# Altium footprint library IC_SMT.PcbLib: 81 footprints (part 1 of 6)
Each footprint in its own frame and in the unit in brackets; x right, y up, seen from the top. Pads: shape width x height; smd on the part's side, far side on the other; paste and mask are expansions set on the pad; w line width, h text height; cw(c..) or ccw(c..) is an arc to the next point about the centre after c.
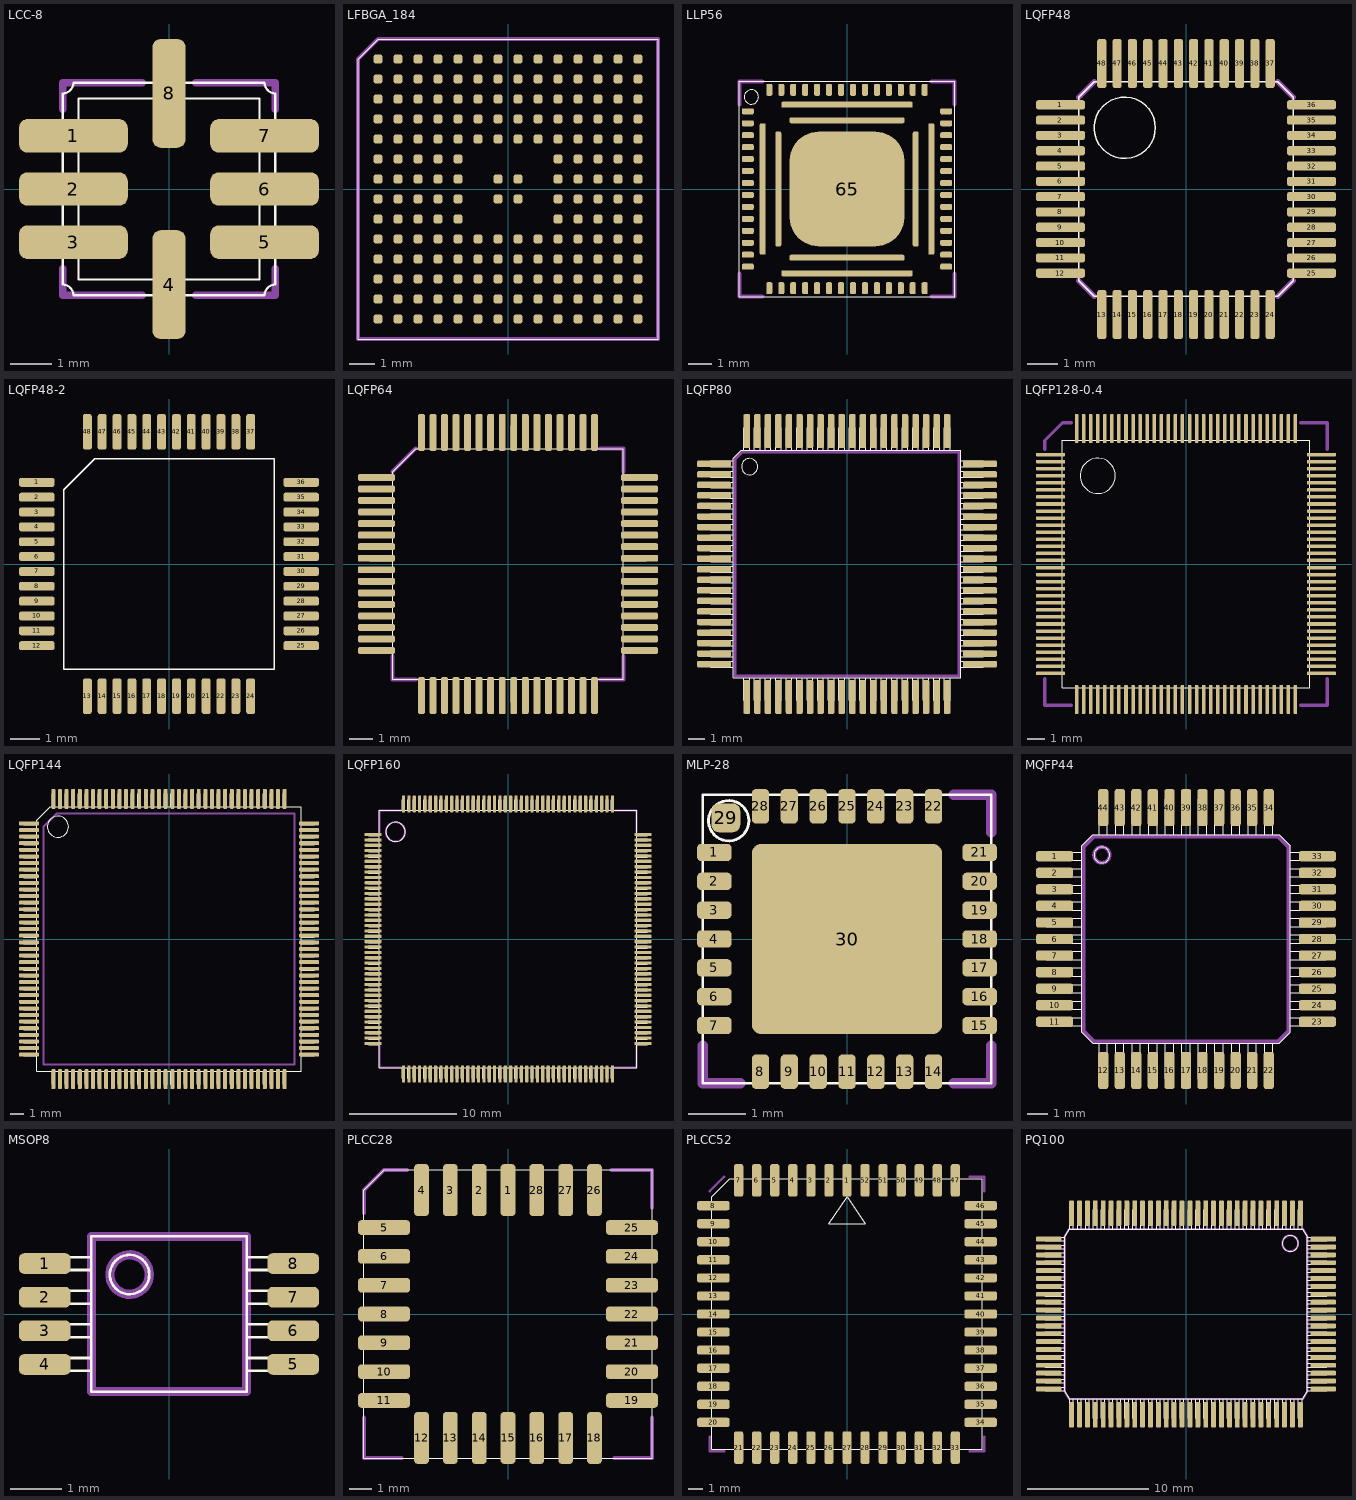
[diagram p0: the footprints below, top view; thin cyan lines are the x and y axes]

## LCC-8 [mm]
height 1.575
pads (8):
  rrect50% 2.6x0.8 smd paste+0: 1(-2.286,1.27) 2(-2.286,0) 3(-2.286,-1.27) 5(2.286,-1.27) 6(2.286,0) 7(2.286,1.27)
  rrect50% 0.8x2.6 smd paste+0: 4(0,-2.286) 8(0,2.286)
Top Overlay:
  lines w0.05: -2.54,-2.286 cw(c-2.54,-2.54) -2.286,-2.54 -0.254,-2.54 cw(c0,-2.54) 0.254,-2.54 2.286,-2.54 cw(c2.54,-2.54) 2.54,-2.286 2.54,-1.524 cw(c2.54,-1.27) 2.54,-1.016 2.54,-0.254 cw(c2.54,0) 2.54,0.254 2.54,1.016 cw(c2.54,1.27) 2.54,1.524 2.54,2.286 cw(c2.54,2.54) 2.286,2.54 0.254,2.54 cw(c0,2.54) -0.254,2.54 -2.286,2.54 cw(c-2.54,2.54) -2.54,2.286 -2.54,1.524 cw(c-2.54,1.27) -2.54,1.016 -2.54,0.254 cw(c-2.54,0) -2.54,-0.254 -2.54,-1.016 cw(c-2.54,-1.27) -2.54,-1.524 -2.54,-2.286 ; -2.159,-2.159 2.159,-2.159 2.159,2.159 -2.159,2.159 -2.159,-2.159
Comp Silk:
  lines w0.18: -2.54,-1.905 -2.54,-2.54 -0.635,-2.54 ; -2.54,1.905 -2.54,2.54 -0.635,2.54 ; 0.635,-2.54 2.54,-2.54 2.54,-1.905 ; 0.635,2.54 2.54,2.54 2.54,1.905
  text ".Designator" at -2.286,1.016 h1.5

## LFBGA_184 [mm]
pads (184):
  rrect50% 0.35x0.35 smd paste+0: A1(-5.2,5.2) A2(-4.4,5.2) A3(-3.6,5.2) A4(-2.8,5.2) A5(-2,5.2) A6(-1.2,5.2) A7(-0.4,5.2) A8(0.4,5.2) A9(1.2,5.2) A10(2,5.2) A11(2.8,5.2) A12(3.6,5.2) A13(4.4,5.2) A14(5.2,5.2) B1(-5.2,4.4) B2(-4.4,4.4) B3(-3.6,4.4) B4(-2.8,4.4) B5(-2,4.4) B6(-1.2,4.4) B7(-0.4,4.4) B8(0.4,4.4) B9(1.2,4.4) B10(2,4.4) B11(2.8,4.4) B12(3.6,4.4) B13(4.4,4.4) B14(5.2,4.4) C1(-5.2,3.6) C2(-4.4,3.6) C3(-3.6,3.6) C4(-2.8,3.6) C5(-2,3.6) C6(-1.2,3.6) C7(-0.4,3.6) C8(0.4,3.6) C9(1.2,3.6) C10(2,3.6) C11(2.8,3.6) C12(3.6,3.6) C13(4.4,3.6) C14(5.2,3.6) D1(-5.2,2.8) D2(-4.4,2.8) D3(-3.6,2.8) D4(-2.8,2.8) D5(-2,2.8) D6(-1.2,2.8) D7(-0.4,2.8) D8(0.4,2.8) D9(1.2,2.8) D10(2,2.8) D11(2.8,2.8) D12(3.6,2.8) D13(4.4,2.8) D14(5.2,2.8) E1(-5.2,2) E2(-4.4,2) E3(-3.6,2) E4(-2.8,2) E5(-2,2) E6(-1.2,2) E7(-0.4,2) E8(0.4,2) E9(1.2,2) E10(2,2) E11(2.8,2) E12(3.6,2) E13(4.4,2) E14(5.2,2) F1(-5.2,1.2) F2(-4.4,1.2) F3(-3.6,1.2) F4(-2.8,1.2) F5(-2,1.2) F10(2,1.2) F11(2.8,1.2) F12(3.6,1.2) F13(4.4,1.2) F14(5.2,1.2) G1(-5.2,0.4) G2(-4.4,0.4) G3(-3.6,0.4) G4(-2.8,0.4) G5(-2,0.4) G7(-0.4,0.4) G8(0.4,0.4) G10(2,0.4) G11(2.8,0.4) G12(3.6,0.4) G13(4.4,0.4) G14(5.2,0.4) H1(-5.2,-0.4) H2(-4.4,-0.4) H3(-3.6,-0.4) H4(-2.8,-0.4) H5(-2,-0.4) H7(-0.4,-0.4) H8(0.4,-0.4) H10(2,-0.4) H11(2.8,-0.4) H12(3.6,-0.4) H13(4.4,-0.4) H14(5.2,-0.4) J1(-5.2,-1.2) J2(-4.4,-1.2) J3(-3.6,-1.2) J4(-2.8,-1.2) J5(-2,-1.2) J10(2,-1.2) J11(2.8,-1.2) J12(3.6,-1.2) J13(4.4,-1.2) J14(5.2,-1.2) K1(-5.2,-2) K2(-4.4,-2) K3(-3.6,-2) K4(-2.8,-2) K5(-2,-2) K6(-1.2,-2) K7(-0.4,-2) K8(0.4,-2) K9(1.2,-2) K10(2,-2) K11(2.8,-2) K12(3.6,-2) K13(4.4,-2) K14(5.2,-2) L1(-5.2,-2.8) L2(-4.4,-2.8) L3(-3.6,-2.8) L4(-2.8,-2.8) L5(-2,-2.8) L6(-1.2,-2.8) L7(-0.4,-2.8) L8(0.4,-2.8) L9(1.2,-2.8) L10(2,-2.8) L11(2.8,-2.8) L12(3.6,-2.8) L13(4.4,-2.8) L14(5.2,-2.8) M1(-5.2,-3.6) M2(-4.4,-3.6) M3(-3.6,-3.6) M4(-2.8,-3.6) M5(-2,-3.6) M6(-1.2,-3.6) M7(-0.4,-3.6) M8(0.4,-3.6) M9(1.2,-3.6) M10(2,-3.6) M11(2.8,-3.6) M12(3.6,-3.6) M13(4.4,-3.6) M14(5.2,-3.6) N1(-5.2,-4.4) N2(-4.4,-4.4) N3(-3.6,-4.4) N4(-2.8,-4.4) N5(-2,-4.4) N6(-1.2,-4.4) N7(-0.4,-4.4) N8(0.4,-4.4) N9(1.2,-4.4) N10(2,-4.4) N11(2.8,-4.4) N12(3.6,-4.4) N13(4.4,-4.4) N14(5.2,-4.4) P1(-5.2,-5.2) P2(-4.4,-5.2) P3(-3.6,-5.2) P4(-2.8,-5.2) P5(-2,-5.2) P6(-1.2,-5.2) P7(-0.4,-5.2) P8(0.4,-5.2) P9(1.2,-5.2) P10(2,-5.2) P11(2.8,-5.2) P12(3.6,-5.2) P13(4.4,-5.2) P14(5.2,-5.2)
Top Overlay:
  lines w0.05: -6,-6 6,-6 6,6 -5.2,6 -6,5.2 -6,-6
Comp Silk:
  lines w0.18: -6,-6 6,-6 6,6 -5.2,6 -6,5.2 -6,-6
  text ".Designator" at -5.08,3.302 h1.5

## LLP56 [mm]
height 0.635
pads (65):
  rrect50% 0.5x0.25 smd paste+0: 1(-4.15,3.25) 2(-4.15,2.75) 3(-4.15,2.25) 4(-4.15,1.75) 5(-4.15,1.25) 6(-4.15,0.75) 7(-4.15,0.25) 8(-4.15,-0.25) 9(-4.15,-0.75) 10(-4.15,-1.25) 11(-4.15,-1.75) 12(-4.15,-2.25) 13(-4.15,-2.75) 14(-4.15,-3.25) 29(4.15,-3.25) 30(4.15,-2.75) 31(4.15,-2.25) 32(4.15,-1.75) 33(4.15,-1.25) 34(4.15,-0.75) 35(4.15,-0.25) 36(4.15,0.25) 37(4.15,0.75) 38(4.15,1.25) 39(4.15,1.75) 40(4.15,2.25) 41(4.15,2.75) 42(4.15,3.25)
  rrect50% 0.25x0.5 smd paste+0: 15(-3.25,-4.15) 16(-2.75,-4.15) 17(-2.25,-4.15) 18(-1.75,-4.15) 19(-1.25,-4.15) 20(-0.75,-4.15) 21(-0.25,-4.15) 22(0.25,-4.15) 23(0.75,-4.15) 24(1.25,-4.15) 25(1.75,-4.15) 26(2.25,-4.15) 27(2.75,-4.15) 28(3.25,-4.15) 43(3.25,4.15) 44(2.75,4.15) 45(2.25,4.15) 46(1.75,4.15) 47(1.25,4.15) 48(0.75,4.15) 49(0.25,4.15) 50(-0.25,4.15) 51(-0.75,4.15) 52(-1.25,4.15) 53(-1.75,4.15) 54(-2.25,4.15) 55(-2.75,4.15) 56(-3.25,4.15)
  rrect50% 0.25x5.5 smd paste+0: 57(-3.525,0) 61(3.525,0)
  rrect50% 0.25x4.8 smd paste+0: 58(-2.875,0) 62(2.875,0)
  rrect50% 5.5x0.25 smd paste+0: 59(0,3.525) 63(0,-3.525)
  rrect50% 4.8x0.25 smd paste+0: 60(0,2.875) 64(0,-2.875)
  rrect50% 4.8x4.8 smd paste+0: 65(0,0)
Top Overlay:
  circle w0.05: c-4,3.85 r0.3
  lines w0.05: -4.5,-4.5 -4.5,4.5 4.5,4.5 4.5,-4.5 -4.5,-4.5
Top Solder:
  circle w0.25: c-1.905,-1.905 r0.381
  circle w0.25: c-0.635,-1.905 r0.381
  circle w0.25: c0.635,-1.905 r0.381
  circle w0.25: c1.905,-1.905 r0.381
  circle w0.25: c-0.635,0.635 r0.381
  circle w0.25: c-1.905,0.635 r0.381
  circle w0.25: c-1.905,1.905 r0.381
  circle w0.25: c-0.635,1.905 r0.381
  circle w0.25: c0.635,1.905 r0.381
  circle w0.25: c1.905,1.905 r0.381
  circle w0.25: c1.905,0.635 r0.381
  circle w0.25: c0.635,0.635 r0.381
  circle w0.25: c-1.905,-0.635 r0.381
  circle w0.25: c1.905,-0.635 r0.381
  circle w0.25: c0.635,-0.635 r0.381
  circle w0.25: c-0.635,-0.635 r0.381
Comp Silk:
  lines w0.18: -4.5,-3.55 -4.5,-4.5 -3.55,-4.5 ; -4.5,3.55 -4.5,4.5 -3.55,4.5 ; 3.55,-4.5 4.5,-4.5 4.5,-3.55 ; 3.55,4.5 4.5,4.5 4.5,3.55
  text ".Designator" at -3.937,2.667 h1.5

## LQFP48 [mm]
height 1.397
pads (48):
  rrect50% 1.6x0.3 smd paste+0: 1(-4.1,2.75) 2(-4.1,2.25) 3(-4.1,1.75) 4(-4.1,1.25) 5(-4.1,0.75) 6(-4.1,0.25) 7(-4.1,-0.25) 8(-4.1,-0.75) 9(-4.1,-1.25) 10(-4.1,-1.75) 11(-4.1,-2.25) 12(-4.1,-2.75) 25(4.1,-2.75) 26(4.1,-2.25) 27(4.1,-1.75) 28(4.1,-1.25) 29(4.1,-0.75) 30(4.1,-0.25) 31(4.1,0.25) 32(4.1,0.75) 33(4.1,1.25) 34(4.1,1.75) 35(4.1,2.25) 36(4.1,2.75)
  rrect50% 0.3x1.6 smd paste+0: 13(-2.75,-4.1) 14(-2.25,-4.1) 15(-1.75,-4.1) 16(-1.25,-4.1) 17(-0.75,-4.1) 18(-0.25,-4.1) 19(0.25,-4.1) 20(0.75,-4.1) 21(1.25,-4.1) 22(1.75,-4.1) 23(2.25,-4.1) 24(2.75,-4.1) 37(2.75,4.1) 38(2.25,4.1) 39(1.75,4.1) 40(1.25,4.1) 41(0.75,4.1) 42(0.25,4.1) 43(-0.25,4.1) 44(-0.75,4.1) 45(-1.25,4.1) 46(-1.75,4.1) 47(-2.25,4.1) 48(-2.75,4.1)
Top Overlay:
  circle w0.05: c-2,2 r1
  lines w0.05: -3.5,-3 -3,-3.5 3,-3.5 3.5,-3 3.5,3 3,3.5 -3,3.5 -3.5,3 -3.5,-3
Comp Silk:
  lines w0.18: -3.5,-3 -3,-3.5 ; -3.5,3 -3,3.5 ; 3,-3.5 3.5,-3 ; 3,3.5 3.5,3
  text ".Designator" at -2.921,1.524 h1.5

## LQFP48-2 [mm] "Rev.1"
height 0.5
pads (48):
  rrect50% 1.2x0.3 smd: 1(-4.45,2.75) 2(-4.45,2.25) 3(-4.45,1.75) 4(-4.45,1.25) 5(-4.45,0.75) 6(-4.45,0.25) 7(-4.45,-0.25) 8(-4.45,-0.75) 9(-4.45,-1.25) 10(-4.45,-1.75) 11(-4.45,-2.25) 12(-4.45,-2.75) 25(4.45,-2.75) 26(4.45,-2.25) 27(4.45,-1.75) 28(4.45,-1.25) 29(4.45,-0.75) 30(4.45,-0.25) 31(4.45,0.25) 32(4.45,0.75) 33(4.45,1.25) 34(4.45,1.75) 35(4.45,2.25) 36(4.45,2.75)
  rrect50% 0.3x1.2 smd: 13(-2.75,-4.45) 14(-2.25,-4.45) 15(-1.75,-4.45) 16(-1.25,-4.45) 17(-0.75,-4.45) 18(-0.25,-4.45) 19(0.25,-4.45) 20(0.75,-4.45) 21(1.25,-4.45) 22(1.75,-4.45) 23(2.25,-4.45) 24(2.75,-4.45) 37(2.75,4.45) 38(2.25,4.45) 39(1.75,4.45) 40(1.25,4.45) 41(0.75,4.45) 42(0.25,4.45) 43(-0.25,4.45) 44(-0.75,4.45) 45(-1.25,4.45) 46(-1.75,4.45) 47(-2.25,4.45) 48(-2.75,4.45)
Top Overlay:
  lines w0.05: -3.54,-3.54 -3.54,2.505 -2.505,3.54 3.54,3.54 3.54,-3.54 -3.54,-3.54

## LQFP64 [mm]
height 1.397
pads (64):
  rrect50% 1.6x0.3 smd paste+0: 1(-5.7,3.75) 2(-5.7,3.25) 3(-5.7,2.75) 4(-5.7,2.25) 5(-5.7,1.75) 6(-5.7,1.25) 7(-5.7,0.75) 8(-5.7,0.25) 9(-5.7,-0.25) 10(-5.7,-0.75) 11(-5.7,-1.25) 12(-5.7,-1.75) 13(-5.7,-2.25) 14(-5.7,-2.75) 15(-5.7,-3.25) 16(-5.7,-3.75) 33(5.7,-3.75) 34(5.7,-3.25) 35(5.7,-2.75) 36(5.7,-2.25) 37(5.7,-1.75) 38(5.7,-1.25) 39(5.7,-0.75) 40(5.7,-0.25) 41(5.7,0.25) 42(5.7,0.75) 43(5.7,1.25) 44(5.7,1.75) 45(5.7,2.25) 46(5.7,2.75) 47(5.7,3.25) 48(5.7,3.75)
  rrect50% 0.3x1.6 smd paste+0: 17(-3.75,-5.7) 18(-3.25,-5.7) 19(-2.75,-5.7) 20(-2.25,-5.7) 21(-1.75,-5.7) 22(-1.25,-5.7) 23(-0.75,-5.7) 24(-0.25,-5.7) 25(0.25,-5.7) 26(0.75,-5.7) 27(1.25,-5.7) 28(1.75,-5.7) 29(2.25,-5.7) 30(2.75,-5.7) 31(3.25,-5.7) 32(3.75,-5.7) 49(3.75,5.7) 50(3.25,5.7) 51(2.75,5.7) 52(2.25,5.7) 53(1.75,5.7) 54(1.25,5.7) 55(0.75,5.7) 56(0.25,5.7) 57(-0.25,5.7) 58(-0.75,5.7) 59(-1.25,5.7) 60(-1.75,5.7) 61(-2.25,5.7) 62(-2.75,5.7) 63(-3.25,5.7) 64(-3.75,5.7)
Top Overlay:
  drawing of 197 lines, arcs and shapes, not listed
Comp Silk:
  lines w0.18: -5,-4 -5,-5 -4,-5 ; -5,4 -4,5 ; 4,-5 5,-5 5,-4 ; 4,5 5,5 5,4
  text ".Designator" at -4.699,2.921 h1.5

## LQFP80 [mm]
height 1.524
pads (80):
  rrect50% 2.1x0.4 smd paste+0: 1(-8.19,6.175) 2(-8.19,5.525) 3(-8.19,4.875) 4(-8.19,4.225) 5(-8.19,3.575) 6(-8.19,2.925) 7(-8.19,2.275) 8(-8.19,1.625) 9(-8.19,0.975) 10(-8.19,0.325) 11(-8.19,-0.325) 12(-8.19,-0.975) 13(-8.19,-1.625) 14(-8.19,-2.275) 15(-8.19,-2.925) 16(-8.19,-3.575) 17(-8.19,-4.225) 18(-8.19,-4.875) 19(-8.19,-5.525) 20(-8.19,-6.175) 41(8.19,-6.175) 42(8.19,-5.525) 43(8.19,-4.875) 44(8.19,-4.225) 45(8.19,-3.575) 46(8.19,-2.925) 47(8.19,-2.275) 48(8.19,-1.625) 49(8.19,-0.975) 50(8.19,-0.325) 51(8.19,0.325) 52(8.19,0.975) 53(8.19,1.625) 54(8.19,2.275) 55(8.19,2.925) 56(8.19,3.575) 57(8.19,4.225) 58(8.19,4.875) 59(8.19,5.525) 60(8.19,6.175)
  rrect50% 0.4x2.1 smd paste+0: 21(-6.175,-8.19) 22(-5.525,-8.19) 23(-4.875,-8.19) 24(-4.225,-8.19) 25(-3.575,-8.19) 26(-2.925,-8.19) 27(-2.275,-8.19) 28(-1.625,-8.19) 29(-0.975,-8.19) 30(-0.325,-8.19) 31(0.325,-8.19) 32(0.975,-8.19) 33(1.625,-8.19) 34(2.275,-8.19) 35(2.925,-8.19) 36(3.575,-8.19) 37(4.225,-8.19) 38(4.875,-8.19) 39(5.525,-8.19) 40(6.175,-8.19) 61(6.175,8.19) 62(5.525,8.19) 63(4.875,8.19) 64(4.225,8.19) 65(3.575,8.19) 66(2.925,8.19) 67(2.275,8.19) 68(1.625,8.19) 69(0.975,8.19) 70(0.325,8.19) 71(-0.325,8.19) 72(-0.975,8.19) 73(-1.625,8.19) 74(-2.275,8.19) 75(-2.925,8.19) 76(-3.575,8.19) 77(-4.225,8.19) 78(-4.875,8.19) 79(-5.525,8.19) 80(-6.175,8.19)
Top Overlay:
  drawing of 246 lines, arcs and shapes, not listed
Comp Silk:
  lines w0.18: -6.9,-6.9 6.9,-6.9 6.9,6.9 -6.45,6.9 -6.9,6.45 -6.9,-6.9
  text ".Designator" at -5.969,3.937 h1.5

## LQFP128-0.4 [mm]
height 1.524
pads (128):
  rrect50% 1.65x0.2 smd paste+0: 1(-7.675,6.2) 2(-7.675,5.8) 3(-7.675,5.4) 4(-7.675,5) 5(-7.675,4.6) 6(-7.675,4.2) 7(-7.675,3.8) 8(-7.675,3.4) 9(-7.675,3) 10(-7.675,2.6) 11(-7.675,2.2) 12(-7.675,1.8) 13(-7.675,1.4) 14(-7.675,1) 15(-7.675,0.6) 16(-7.675,0.2) 17(-7.675,-0.2) 18(-7.675,-0.6) 19(-7.675,-1) 20(-7.675,-1.4) 21(-7.675,-1.8) 22(-7.675,-2.2) 23(-7.675,-2.6) 24(-7.675,-3) 25(-7.675,-3.4) 26(-7.675,-3.8) 27(-7.675,-4.2) 28(-7.675,-4.6) 29(-7.675,-5) 30(-7.675,-5.4) 31(-7.675,-5.8) 32(-7.675,-6.2) 65(7.675,-6.2) 66(7.675,-5.8) 67(7.675,-5.4) 68(7.675,-5) 69(7.675,-4.6) 70(7.675,-4.2) 71(7.675,-3.8) 72(7.675,-3.4) 73(7.675,-3) 74(7.675,-2.6) 75(7.675,-2.2) 76(7.675,-1.8) 77(7.675,-1.4) 78(7.675,-1) 79(7.675,-0.6) 80(7.675,-0.2) 81(7.675,0.2) 82(7.675,0.6) 83(7.675,1) 84(7.675,1.4) 85(7.675,1.8) 86(7.675,2.2) 87(7.675,2.6) 88(7.675,3) 89(7.675,3.4) 90(7.675,3.8) 91(7.675,4.2) 92(7.675,4.6) 93(7.675,5) 94(7.675,5.4) 95(7.675,5.8) 96(7.675,6.2)
  rrect50% 0.2x1.65 smd paste+0: 33(-6.2,-7.675) 34(-5.8,-7.675) 35(-5.4,-7.675) 36(-5,-7.675) 37(-4.6,-7.675) 38(-4.2,-7.675) 39(-3.8,-7.675) 40(-3.4,-7.675) 41(-3,-7.675) 42(-2.6,-7.675) 43(-2.2,-7.675) 44(-1.8,-7.675) 45(-1.4,-7.675) 46(-1,-7.675) 47(-0.6,-7.675) 48(-0.2,-7.675) 49(0.2,-7.675) 50(0.6,-7.675) 51(1,-7.675) 52(1.4,-7.675) 53(1.8,-7.675) 54(2.2,-7.675) 55(2.6,-7.675) 56(3,-7.675) 57(3.4,-7.675) 58(3.8,-7.675) 59(4.2,-7.675) 60(4.6,-7.675) 61(5,-7.675) 62(5.4,-7.675) 63(5.8,-7.675) 64(6.2,-7.675) 97(6.2,7.675) 98(5.8,7.675) 99(5.4,7.675) 100(5,7.675) 101(4.6,7.675) 102(4.2,7.675) 103(3.8,7.675) 104(3.4,7.675) 105(3,7.675) 106(2.6,7.675) 107(2.2,7.675) 108(1.8,7.675) 109(1.4,7.675) 110(1,7.675) 111(0.6,7.675) 112(0.2,7.675) 113(-0.2,7.675) 114(-0.6,7.675) 115(-1,7.675) 116(-1.4,7.675) 117(-1.8,7.675) 118(-2.2,7.675) 119(-2.6,7.675) 120(-3,7.675) 121(-3.4,7.675) 122(-3.8,7.675) 123(-4.2,7.675) 124(-4.6,7.675) 125(-5,7.675) 126(-5.4,7.675) 127(-5.8,7.675) 128(-6.2,7.675)
Top Overlay:
  circle w0.05: c-5,5 r1
  lines w0.05: -7,-7 7,-7 7,7 -7,7 -7,-7
Comp Silk:
  lines w0.18: -8,-6.5 -8,-8 -6.5,-8 ; -8,6.5 -8,7 -7,8 -6.5,8 ; 6.5,-8 8,-8 8,-6.5 ; 6.5,8 8,8 8,6.5
  text ".Designator" at -6.223,4.318 h1.5

## LQFP144 [mm]
height 1.524
pads (144):
  rrect50% 1.5x0.3 smd paste+0: 1(-10.6,8.75) 2(-10.6,8.25) 3(-10.6,7.75) 4(-10.6,7.25) 5(-10.6,6.75) 6(-10.6,6.25) 7(-10.6,5.75) 8(-10.6,5.25) 9(-10.6,4.75) 10(-10.6,4.25) 11(-10.6,3.75) 12(-10.6,3.25) 13(-10.6,2.75) 14(-10.6,2.25) 15(-10.6,1.75) 16(-10.6,1.25) 17(-10.6,0.75) 18(-10.6,0.25) 19(-10.6,-0.25) 20(-10.6,-0.75) 21(-10.6,-1.25) 22(-10.6,-1.75) 23(-10.6,-2.25) 24(-10.6,-2.75) 25(-10.6,-3.25) 26(-10.6,-3.75) 27(-10.6,-4.25) 28(-10.6,-4.75) 29(-10.6,-5.25) 30(-10.6,-5.75) 31(-10.6,-6.25) 32(-10.6,-6.75) 33(-10.6,-7.25) 34(-10.6,-7.75) 35(-10.6,-8.25) 36(-10.6,-8.75) 73(10.6,-8.75) 74(10.6,-8.25) 75(10.6,-7.75) 76(10.6,-7.25) 77(10.6,-6.75) 78(10.6,-6.25) 79(10.6,-5.75) 80(10.6,-5.25) 81(10.6,-4.75) 82(10.6,-4.25) 83(10.6,-3.75) 84(10.6,-3.25) 85(10.6,-2.75) 86(10.6,-2.25) 87(10.6,-1.75) 88(10.6,-1.25) 89(10.6,-0.75) 90(10.6,-0.25) 91(10.6,0.25) 92(10.6,0.75) 93(10.6,1.25) 94(10.6,1.75) 95(10.6,2.25) 96(10.6,2.75) 97(10.6,3.25) 98(10.6,3.75) 99(10.6,4.25) 100(10.6,4.75) 101(10.6,5.25) 102(10.6,5.75) 103(10.6,6.25) 104(10.6,6.75) 105(10.6,7.25) 106(10.6,7.75) 107(10.6,8.25) 108(10.6,8.75)
  rrect50% 0.3x1.5 smd paste+0: 37(-8.75,-10.6) 38(-8.25,-10.6) 39(-7.75,-10.6) 40(-7.25,-10.6) 41(-6.75,-10.6) 42(-6.25,-10.6) 43(-5.75,-10.6) 44(-5.25,-10.6) 45(-4.75,-10.6) 46(-4.25,-10.6) 47(-3.75,-10.6) 48(-3.25,-10.6) 49(-2.75,-10.6) 50(-2.25,-10.6) 51(-1.75,-10.6) 52(-1.25,-10.6) 53(-0.75,-10.6) 54(-0.25,-10.6) 55(0.25,-10.6) 56(0.75,-10.6) 57(1.25,-10.6) 58(1.75,-10.6) 59(2.25,-10.6) 60(2.75,-10.6) 61(3.25,-10.6) 62(3.75,-10.6) 63(4.25,-10.6) 64(4.75,-10.6) 65(5.25,-10.6) 66(5.75,-10.6) 67(6.25,-10.6) 68(6.75,-10.6) 69(7.25,-10.6) 70(7.75,-10.6) 71(8.25,-10.6) 72(8.75,-10.6) 109(8.75,10.6) 110(8.25,10.6) 111(7.75,10.6) 112(7.25,10.6) 113(6.75,10.6) 114(6.25,10.6) 115(5.75,10.6) 116(5.25,10.6) 117(4.75,10.6) 118(4.25,10.6) 119(3.75,10.6) 120(3.25,10.6) 121(2.75,10.6) 122(2.25,10.6) 123(1.75,10.6) 124(1.25,10.6) 125(0.75,10.6) 126(0.25,10.6) 127(-0.25,10.6) 128(-0.75,10.6) 129(-1.25,10.6) 130(-1.75,10.6) 131(-2.25,10.6) 132(-2.75,10.6) 133(-3.25,10.6) 134(-3.75,10.6) 135(-4.25,10.6) 136(-4.75,10.6) 137(-5.25,10.6) 138(-5.75,10.6) 139(-6.25,10.6) 140(-6.75,10.6) 141(-7.25,10.6) 142(-7.75,10.6) 143(-8.25,10.6) 144(-8.75,10.6)
Top Overlay:
  drawing of 438 lines, arcs and shapes, not listed
Comp Silk:
  lines w0.18: -9.5,-9.5 -9.5,8.5 -8.5,9.5 9.5,9.5 9.5,-9.5 -9.5,-9.5
  text ".Designator" at -7.239,5.969 h1.5

## LQFP160 [mm]
height 1.524
pads (160):
  rrect50% 1.6x0.3 smd paste+0: 1(-12.6,9.75) 2(-12.6,9.25) 3(-12.6,8.75) 4(-12.6,8.25) 5(-12.6,7.75) 6(-12.6,7.25) 7(-12.6,6.75) 8(-12.6,6.25) 9(-12.6,5.75) 10(-12.6,5.25) 11(-12.6,4.75) 12(-12.6,4.25) 13(-12.6,3.75) 14(-12.6,3.25) 15(-12.6,2.75) 16(-12.6,2.25) 17(-12.6,1.75) 18(-12.6,1.25) 19(-12.6,0.75) 20(-12.6,0.25) 21(-12.6,-0.25) 22(-12.6,-0.75) 23(-12.6,-1.25) 24(-12.6,-1.75) 25(-12.6,-2.25) 26(-12.6,-2.75) 27(-12.6,-3.25) 28(-12.6,-3.75) 29(-12.6,-4.25) 30(-12.6,-4.75) 31(-12.6,-5.25) 32(-12.6,-5.75) 33(-12.6,-6.25) 34(-12.6,-6.75) 35(-12.6,-7.25) 36(-12.6,-7.75) 37(-12.6,-8.25) 38(-12.6,-8.75) 39(-12.6,-9.25) 40(-12.6,-9.75) 81(12.6,-9.75) 82(12.6,-9.25) 83(12.6,-8.75) 84(12.6,-8.25) 85(12.6,-7.75) 86(12.6,-7.25) 87(12.6,-6.75) 88(12.6,-6.25) 89(12.6,-5.75) 90(12.6,-5.25) 91(12.6,-4.75) 92(12.6,-4.25) 93(12.6,-3.75) 94(12.6,-3.25) 95(12.6,-2.75) 96(12.6,-2.25) 97(12.6,-1.75) 98(12.6,-1.25) 99(12.6,-0.75) 100(12.6,-0.25) 101(12.6,0.25) 102(12.6,0.75) 103(12.6,1.25) 104(12.6,1.75) 105(12.6,2.25) 106(12.6,2.75) 107(12.6,3.25) 108(12.6,3.75) 109(12.6,4.25) 110(12.6,4.75) 111(12.6,5.25) 112(12.6,5.75) 113(12.6,6.25) 114(12.6,6.75) 115(12.6,7.25) 116(12.6,7.75) 117(12.6,8.25) 118(12.6,8.75) 119(12.6,9.25) 120(12.6,9.75)
  rrect50% 0.3x1.6 smd paste+0: 41(-9.75,-12.6) 42(-9.25,-12.6) 43(-8.75,-12.6) 44(-8.25,-12.6) 45(-7.75,-12.6) 46(-7.25,-12.6) 47(-6.75,-12.6) 48(-6.25,-12.6) 49(-5.75,-12.6) 50(-5.25,-12.6) 51(-4.75,-12.6) 52(-4.25,-12.6) 53(-3.75,-12.6) 54(-3.25,-12.6) 55(-2.75,-12.6) 56(-2.25,-12.6) 57(-1.75,-12.6) 58(-1.25,-12.6) 59(-0.75,-12.6) 60(-0.25,-12.6) 61(0.25,-12.6) 62(0.75,-12.6) 63(1.25,-12.6) 64(1.75,-12.6) 65(2.25,-12.6) 66(2.75,-12.6) 67(3.25,-12.6) 68(3.75,-12.6) 69(4.25,-12.6) 70(4.75,-12.6) 71(5.25,-12.6) 72(5.75,-12.6) 73(6.25,-12.6) 74(6.75,-12.6) 75(7.25,-12.6) 76(7.75,-12.6) 77(8.25,-12.6) 78(8.75,-12.6) 79(9.25,-12.6) 80(9.75,-12.6) 121(9.75,12.6) 122(9.25,12.6) 123(8.75,12.6) 124(8.25,12.6) 125(7.75,12.6) 126(7.25,12.6) 127(6.75,12.6) 128(6.25,12.6) 129(5.75,12.6) 130(5.25,12.6) 131(4.75,12.6) 132(4.25,12.6) 133(3.75,12.6) 134(3.25,12.6) 135(2.75,12.6) 136(2.25,12.6) 137(1.75,12.6) 138(1.25,12.6) 139(0.75,12.6) 140(0.25,12.6) 141(-0.25,12.6) 142(-0.75,12.6) 143(-1.25,12.6) 144(-1.75,12.6) 145(-2.25,12.6) 146(-2.75,12.6) 147(-3.25,12.6) 148(-3.75,12.6) 149(-4.25,12.6) 150(-4.75,12.6) 151(-5.25,12.6) 152(-5.75,12.6) 153(-6.25,12.6) 154(-6.75,12.6) 155(-7.25,12.6) 156(-7.75,12.6) 157(-8.25,12.6) 158(-8.75,12.6) 159(-9.25,12.6) 160(-9.75,12.6)
MidLayer4:
  lines w0.051: -14,-14 -14,14 14,14 14,-14 -14,-14
Top Overlay:
  drawing of 485 lines, arcs and shapes, not listed
Comp Silk:
  circle w0.18: c-10.5,10 r0.9
  lines w0.18: -12,-10 -12,-12 -10,-12 ; -12,10 -12,12 -10,12 ; 10,-12 12,-12 12,-10 ; 10,12 12,12 12,10
  text ".Designator" at -6.858,8.128 h1.5

## MLP-28 [mm]
height 1.016
pads (30):
  rrect50% 0.6x0.3 smd paste+0: 1(-2.3,1.5) 2(-2.3,1) 3(-2.3,0.5) 4(-2.3,0) 5(-2.3,-0.5) 6(-2.3,-1) 7(-2.3,-1.5) 15(2.3,-1.5) 16(2.3,-1) 17(2.3,-0.5) 18(2.3,0) 19(2.3,0.5) 20(2.3,1) 21(2.3,1.5)
  rrect50% 0.3x0.6 smd paste+0: 8(-1.5,-2.3) 9(-1,-2.3) 10(-0.5,-2.3) 11(0,-2.3) 12(0.5,-2.3) 13(1,-2.3) 14(1.5,-2.3) 22(1.5,2.3) 23(1,2.3) 24(0.5,2.3) 25(0,2.3) 26(-0.5,2.3) 27(-1,2.3) 28(-1.5,2.3)
  rrect50% 0.5x0.5 smd paste+0: 29(-2.1,2.1)
  rrect10% 3.3x3.3 smd paste+0: 30(0,0)
Top Overlay:
  circle w0.05: c-2.05,2.05 r0.35
  lines w0.05: -2.5,-2.5 2.5,-2.5 2.5,2.5 -2.5,2.5 -2.5,-2.5
Comp Silk:
  lines w0.18: -2.5,-1.85 -2.5,-2.5 -1.85,-2.5 ; 1.85,-2.5 2.5,-2.5 2.5,-1.85 ; 1.85,2.5 2.5,2.5 2.5,1.85
  text ".Designator" at -2.032,1.016 h1.5

## MQFP44 [mm]
height 2.286
pads (44):
  rrect50% 1.8x0.5 smd paste+0: 1(-6.35,4) 2(-6.35,3.2) 3(-6.35,2.4) 4(-6.35,1.6) 5(-6.35,0.8) 6(-6.35,0) 7(-6.35,-0.8) 8(-6.35,-1.6) 9(-6.35,-2.4) 10(-6.35,-3.2) 11(-6.35,-4) 23(6.35,-4) 24(6.35,-3.2) 25(6.35,-2.4) 26(6.35,-1.6) 27(6.35,-0.8) 28(6.35,0) 29(6.35,0.8) 30(6.35,1.6) 31(6.35,2.4) 32(6.35,3.2) 33(6.35,4)
  rrect50% 0.5x1.8 smd paste+0: 12(-4,-6.35) 13(-3.2,-6.35) 14(-2.4,-6.35) 15(-1.6,-6.35) 16(-0.8,-6.35) 17(0,-6.35) 18(0.8,-6.35) 19(1.6,-6.35) 20(2.4,-6.35) 21(3.2,-6.35) 22(4,-6.35) 34(4,6.35) 35(3.2,6.35) 36(2.4,6.35) 37(1.6,6.35) 38(0.8,6.35) 39(0,6.35) 40(-0.8,6.35) 41(-1.6,6.35) 42(-2.4,6.35) 43(-3.2,6.35) 44(-4,6.35)
Top Overlay:
  lines w0.05: -5.05,-4.2 -6.75,-4.2 -6.75,-3.8 -5.05,-3.8 ; -5.05,-3.4 -6.75,-3.4 -6.75,-3 -5.05,-3 ; -5.05,-2.6 -6.75,-2.6 -6.75,-2.2 -5.05,-2.2 ; -5.05,-1.8 -6.75,-1.8 -6.75,-1.4 -5.05,-1.4 ; -5.05,-1 -6.75,-1 -6.75,-0.6 -5.05,-0.6 ; -5.05,-0.2 -6.75,-0.2 -6.75,0.2 -5.05,0.2 ; -5.05,0.6 -6.75,0.6 -6.75,1 -5.05,1 ; -5.05,1.4 -6.75,1.4 -6.75,1.8 -5.05,1.8 ; -5.05,2.2 -6.75,2.2 -6.75,2.6 -5.05,2.6 ; -5.05,3 -6.75,3 -6.75,3.4 -5.05,3.4 ; -5.05,3.8 -6.75,3.8 -6.75,4.2 -5.05,4.2 ; -4.2,-5.05 -4.2,-6.75 -3.8,-6.75 -3.8,-5.05 ; -4.2,5.05 -4.2,6.75 -3.8,6.75 -3.8,5.05 ; -3.4,-5.05 -3.4,-6.75 -3,-6.75 -3,-5.05 ; -3.4,5.05 -3.4,6.75 -3,6.75 -3,5.05 ; -2.6,-5.05 -2.6,-6.75 -2.2,-6.75 -2.2,-5.05 ; -2.6,5.05 -2.6,6.75 -2.2,6.75 -2.2,5.05 ; -1.8,-5.05 -1.8,-6.75 -1.4,-6.75 -1.4,-5.05 ; -1.8,5.05 -1.8,6.75 -1.4,6.75 -1.4,5.05 ; -1,-5.05 -1,-6.75 -0.6,-6.75 -0.6,-5.05 ; -1,5.05 -1,6.75 -0.6,6.75 -0.6,5.05 ; -0.2,-5.05 -0.2,-6.75 0.2,-6.75 0.2,-5.05 ; -0.2,5.05 -0.2,6.75 0.2,6.75 0.2,5.05 ; 0.6,-5.05 0.6,-6.75 1,-6.75 1,-5.05 ; 0.6,5.05 0.6,6.75 1,6.75 1,5.05 ; 1.4,-5.05 1.4,-6.75 1.8,-6.75 1.8,-5.05 ; 1.4,5.05 1.4,6.75 1.8,6.75 1.8,5.05 ; 2.2,-5.05 2.2,-6.75 2.6,-6.75 2.6,-5.05 ; 2.2,5.05 2.2,6.75 2.6,6.75 2.6,5.05 ; 3,-5.05 3,-6.75 3.4,-6.75 3.4,-5.05 ; 3,5.05 3,6.75 3.4,6.75 3.4,5.05 ; 3.8,-5.05 3.8,-6.75 4.2,-6.75 4.2,-5.05 ; 3.8,5.05 3.8,6.75 4.2,6.75 4.2,5.05 ; 5.05,-4.2 6.75,-4.2 6.75,-3.8 5.05,-3.8 ; 5.05,-3.4 6.75,-3.4 6.75,-3 5.05,-3 ; 5.05,-2.6 6.75,-2.6 6.75,-2.2 5.05,-2.2 ; 5.05,-1.8 6.75,-1.8 6.75,-1.4 5.05,-1.4 ; 5.05,-1 6.75,-1 6.75,-0.6 5.05,-0.6 ; 5.05,-0.2 6.75,-0.2 6.75,0.2 5.05,0.2 ; 5.05,0.6 6.75,0.6 6.75,1 5.05,1 ; 5.05,1.4 6.75,1.4 6.75,1.8 5.05,1.8 ; 5.05,2.2 6.75,2.2 6.75,2.6 5.05,2.6 ; 5.05,3 6.75,3 6.75,3.4 5.05,3.4 ; 5.05,3.8 6.75,3.8 6.75,4.2 5.05,4.2 ; -5.05,-4.5 -4.5,-5.05 4.5,-5.05 5.05,-4.5 5.05,4.5 4.5,5.05 -4.5,5.05 -5.05,4.5 -5.05,-4.5 ; -4.445,4.064 cw(c-4.064,4.064) -3.683,4.064 cw(c-4.064,4.064) -4.445,4.064
Comp Silk:
  lines w0.18: -4.953,-4.445 -4.445,-4.953 4.445,-4.953 4.953,-4.445 4.953,4.445 4.445,4.953 -4.445,4.953 -4.953,4.445 -4.953,-4.445 ; -4.445,4.064 cw(c-4.064,4.064) -3.683,4.064 cw(c-4.064,4.064) -4.445,4.064
  text ".Designator" at -4.445,2.794 h1.5

## MSOP8 [mm]
height 1.1
pads (8):
  rrect50% 1x0.4 smd paste+0: 1(-2.4,0.975) 2(-2.4,0.325) 3(-2.4,-0.325) 4(-2.4,-0.975) 5(2.4,-0.975) 6(2.4,-0.325) 7(2.4,0.325) 8(2.4,0.975)
Top Overlay:
  circle w0.05: c-0.762,0.762 r0.381
  lines w0.05: -1.5,-1.1 -2.45,-1.1 -2.45,-0.85 -1.5,-0.85 ; -1.5,-0.45 -2.45,-0.45 -2.45,-0.2 -1.5,-0.2 ; -1.5,0.2 -2.45,0.2 -2.45,0.45 -1.5,0.45 ; -1.5,0.85 -2.45,0.85 -2.45,1.1 -1.5,1.1 ; 1.5,-1.1 2.45,-1.1 2.45,-0.85 1.5,-0.85 ; 1.5,-0.45 2.45,-0.45 2.45,-0.2 1.5,-0.2 ; 1.5,0.2 2.45,0.2 2.45,0.45 1.5,0.45 ; 1.5,0.85 2.45,0.85 2.45,1.1 1.5,1.1 ; -1.5,-1.5 1.5,-1.5 1.5,1.5 -1.5,1.5 -1.5,-1.5
Comp Silk:
  circle w0.18: c-0.762,0.762 r0.381
  lines w0.18: -1.5,-1.5 1.5,-1.5 1.5,1.5 -1.5,1.5 -1.5,-1.5
  text ".Designator" at -0.508,-1.397 h1.5

## PLCC28 [mm]
height 3.175
pads (28):
  rrect50% 0.65x2.3 smd paste+0: 1(0,5.461) 2(-1.27,5.461) 3(-2.54,5.461) 4(-3.81,5.461) 12(-3.81,-5.461) 13(-2.54,-5.461) 14(-1.27,-5.461) 15(0,-5.461) 16(1.27,-5.461) 17(2.54,-5.461) 18(3.81,-5.461) 26(3.81,5.461) 27(2.54,5.461) 28(1.27,5.461)
  rrect50% 2.3x0.65 smd paste+0: 5(-5.461,3.81) 6(-5.461,2.54) 7(-5.461,1.27) 8(-5.461,0) 9(-5.461,-1.27) 10(-5.461,-2.54) 11(-5.461,-3.81) 19(5.461,-3.81) 20(5.461,-2.54) 21(5.461,-1.27) 22(5.461,0) 23(5.461,1.27) 24(5.461,2.54) 25(5.461,3.81)
Top Overlay:
  lines w0.05: -6.35,-6.35 -6.35,5.461 -5.461,6.35 6.35,6.35 6.35,-6.35 -6.35,-6.35
Comp Silk:
  lines w0.18: -6.35,-4.572 -6.35,-6.35 -4.699,-6.35 ; -6.35,4.445 -6.35,5.461 -5.461,6.35 -4.445,6.35 ; 4.572,6.35 6.35,6.35 6.35,4.699 ; 4.699,-6.35 6.35,-6.35 6.35,-4.572
  text ".Designator" at -3.937,2.921 h1.5

## PLCC52 [mm]
height 6.35
pads (52):
  rrect50% 0.65x2.3 smd paste+0: 1(0,9.398) 2(-1.27,9.398) 3(-2.54,9.398) 4(-3.81,9.398) 5(-5.08,9.398) 6(-6.35,9.398) 7(-7.62,9.398) 21(-7.62,-9.398) 22(-6.35,-9.398) 23(-5.08,-9.398) 24(-3.81,-9.398) 25(-2.54,-9.398) 26(-1.27,-9.398) 27(0,-9.398) 28(1.27,-9.398) 29(2.54,-9.398) 30(3.81,-9.398) 31(5.08,-9.398) 32(6.35,-9.398) 33(7.62,-9.398) 47(7.62,9.398) 48(6.35,9.398) 49(5.08,9.398) 50(3.81,9.398) 51(2.54,9.398) 52(1.27,9.398)
  rrect50% 2.3x0.65 smd paste+0: 8(-9.398,7.62) 9(-9.398,6.35) 10(-9.398,5.08) 11(-9.398,3.81) 12(-9.398,2.54) 13(-9.398,1.27) 14(-9.398,0) 15(-9.398,-1.27) 16(-9.398,-2.54) 17(-9.398,-3.81) 18(-9.398,-5.08) 19(-9.398,-6.35) 20(-9.398,-7.62) 34(9.398,-7.62) 35(9.398,-6.35) 36(9.398,-5.08) 37(9.398,-3.81) 38(9.398,-2.54) 39(9.398,-1.27) 40(9.398,0) 41(9.398,1.27) 42(9.398,2.54) 43(9.398,3.81) 44(9.398,5.08) 45(9.398,6.35) 46(9.398,7.62)
Top Overlay:
  lines w0.05: -9.525,-9.525 9.525,-9.525 9.525,9.525 -8.255,9.525 -9.525,8.255 -9.525,-9.525 ; -1.27,6.35 1.27,6.35 0,8.255 -1.27,6.35
Comp Silk:
  lines w0.18: -9.652,-8.636 -9.652,-9.652 -8.636,-9.652 ; -9.652,8.636 -8.636,9.652 ; 8.636,-9.652 9.652,-9.652 9.652,-8.636 ; 8.636,9.652 9.652,9.652 9.652,8.636
  text ".Designator" at -6.096,6.35 h1.5

## PQ100 [mm]
height 2.54
pads (100):
  rrect50% 0.4x2.1 smd paste+0: 1(9.425,8.312) 2(8.775,8.312) 3(8.125,8.312) 4(7.475,8.312) 5(6.825,8.312) 6(6.175,8.312) 7(5.525,8.312) 8(4.875,8.312) 9(4.225,8.312) 10(3.575,8.312) 11(2.925,8.312) 12(2.275,8.312) 13(1.625,8.312) 14(0.975,8.312) 15(0.325,8.312) 16(-0.325,8.312) 17(-0.975,8.312) 18(-1.625,8.312) 19(-2.275,8.312) 20(-2.925,8.312) 21(-3.575,8.312) 22(-4.225,8.312) 23(-4.875,8.312) 24(-5.525,8.312) 25(-6.175,8.312) 26(-6.825,8.312) 27(-7.475,8.312) 28(-8.125,8.312) 29(-8.775,8.312) 30(-9.425,8.312) 51(-9.425,-8.312) 52(-8.775,-8.312) 53(-8.125,-8.312) 54(-7.475,-8.312) 55(-6.825,-8.312) 56(-6.175,-8.312) 57(-5.525,-8.312) 58(-4.875,-8.312) 59(-4.225,-8.312) 60(-3.575,-8.312) 61(-2.925,-8.312) 62(-2.275,-8.312) 63(-1.625,-8.312) 64(-0.975,-8.312) 65(-0.325,-8.312) 66(0.325,-8.312) 67(0.975,-8.312) 68(1.625,-8.312) 69(2.275,-8.312) 70(2.925,-8.312) 71(3.575,-8.312) 72(4.225,-8.312) 73(4.875,-8.312) 74(5.525,-8.312) 75(6.175,-8.312) 76(6.825,-8.312) 77(7.475,-8.312) 78(8.125,-8.312) 79(8.775,-8.312) 80(9.425,-8.312)
  rrect50% 2.1x0.4 smd paste+0: 31(-11.312,6.175) 32(-11.312,5.525) 33(-11.312,4.875) 34(-11.312,4.225) 35(-11.312,3.575) 36(-11.312,2.925) 37(-11.312,2.275) 38(-11.312,1.625) 39(-11.312,0.975) 40(-11.312,0.325) 41(-11.312,-0.325) 42(-11.312,-0.975) 43(-11.312,-1.625) 44(-11.312,-2.275) 45(-11.312,-2.925) 46(-11.312,-3.575) 47(-11.312,-4.225) 48(-11.312,-4.875) 49(-11.312,-5.525) 50(-11.312,-6.175) 81(11.312,-6.175) 82(11.312,-5.525) 83(11.312,-4.875) 84(11.312,-4.225) 85(11.312,-3.575) 86(11.312,-2.925) 87(11.312,-2.275) 88(11.312,-1.625) 89(11.312,-0.975) 90(11.312,-0.325) 91(11.312,0.325) 92(11.312,0.975) 93(11.312,1.625) 94(11.312,2.275) 95(11.312,2.925) 96(11.312,3.575) 97(11.312,4.225) 98(11.312,4.875) 99(11.312,5.525) 100(11.312,6.175)
Top Overlay:
  drawing of 310 lines, arcs and shapes, not listed
Comp Silk:
  circle w0.18: c8.59,5.82 r0.65
  lines w0.18: -10,-6.38 -9.63,-7 9.63,-7 10,-6.38 10,6.38 9.63,7 -9.63,7 -10,6.38 -10,-6.38
  text ".Designator" at -7.747,4.064 h1.5